# EAGLE library part 690357281876 (library Wurth_Elektronik_Electromechanic_Board_to_Board_Connectors_rev16a)
WR-MM Male SMT Connector without Latch and without Polarization, 18 pins=>Code : Con_BTB_MM_SMT_690357281876 <http://katalog.we-online.de/media/thumbs2/eican/thb_Con_BTB_MM_SMT_69035728xx76_pf2.jpg> Details see: http://katalog.we-online.de/en/em/6903_5728_xx_76 Created 2014-06-04, Karrer Zheng 2014 (C) Würth Elektronik
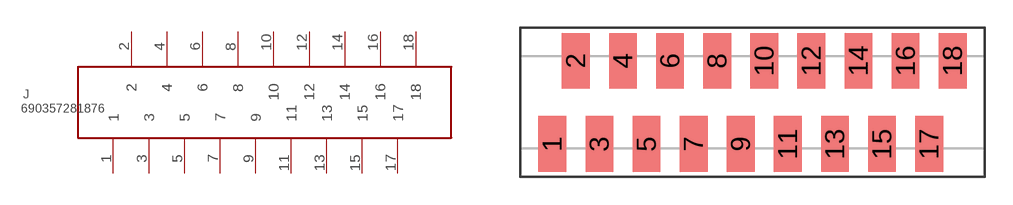
[diagram p338: symbol with the pads of 690357281876; footprint 690357281876]

Designator prefix J

## 690357281876  [690357281876]
1  1  pas
2  2  pas
3  3  pas
4  4  pas
5  5  pas
6  6  pas
7  7  pas
8  8  pas
9  9  pas
10  10  pas
11  11  pas
12  12  pas
13  13  pas
14  14  pas
15  15  pas
16  16  pas
17  17  pas
18  18  pas

## Footprint 690357281876 (pad centres in mm)
WR-MM Male SMT Connector without Latch and without Polarization, 18 pins
smd 1.5 x 3: 1 -8.89,-2.25; 2 -7.62,2.25; 3 -6.35,-2.25; 4 -5.08,2.25; 5 -3.81,-2.25; 6 -2.54,2.25; 7 -1.27,-2.25; 8 0,2.25; 9 1.27,-2.25; 10 2.54,2.25; 11 3.81,-2.25; 12 5.08,2.25; 13 6.35,-2.25; 14 7.62,2.25; 15 8.89,-2.25; 16 10.16,2.25; 17 11.43,-2.25; 18 12.7,2.25